# Altium footprint library TGIS_Microcontrollers.PcbLib: 18 footprints (part 1 of 2)
Each footprint in its own frame and in the unit in brackets; x right, y up, seen from the top. Pads: shape width x height; smd on the part's side, far side on the other; paste and mask are expansions set on the pad; w line width, h text height; cw(c..) or ccw(c..) is an arc to the next point about the centre after c.
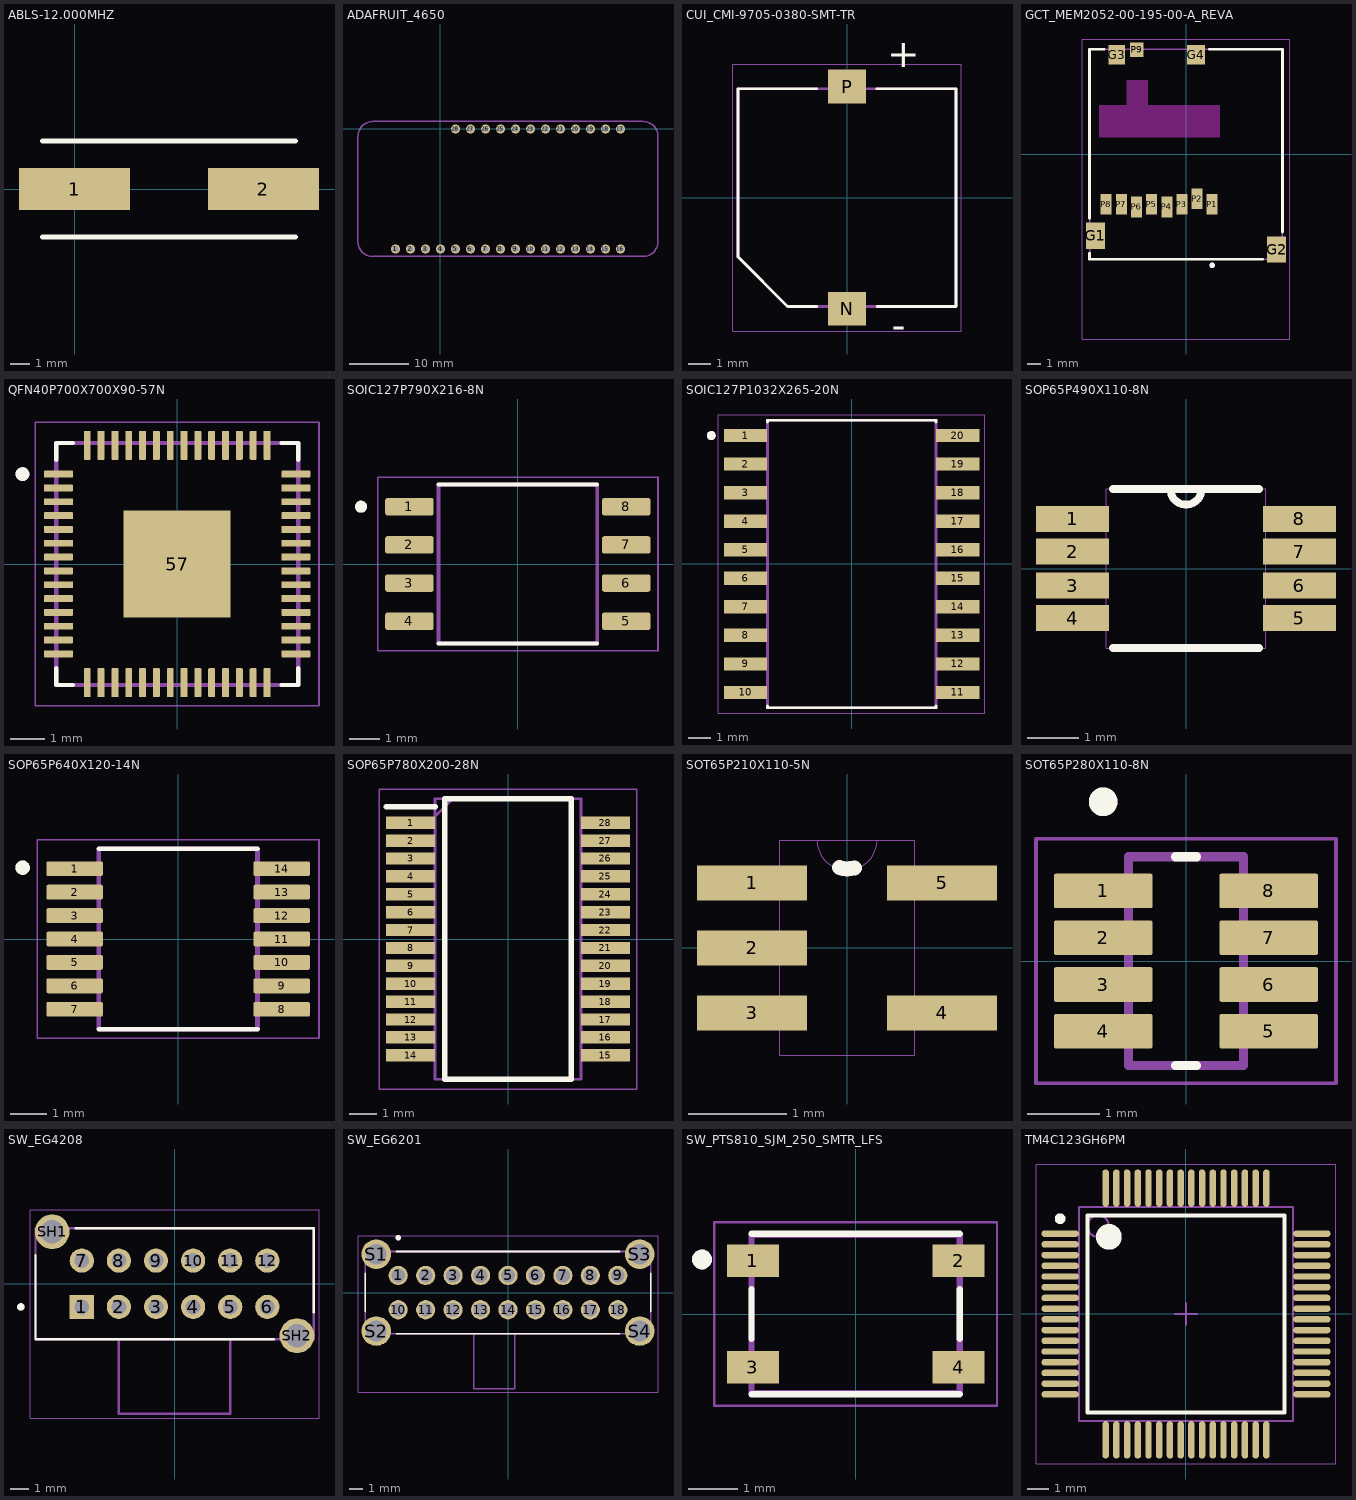
[diagram p0: the footprints below, top view; thin cyan lines are the x and y axes]

## ABLS-12.000MHZ [mil]
pads (2):
  rect 220x83 smd paste-22.44 mask+1.97: 1(0,0) 2(374,0)
Top Overlay:
  lines w10: -63,-95 187,-95 437,-95 ; -63,95 187,95 437,95
3D body "ABLS-12.000MHZ-B2-T--3DModel-STEP-400430.STEP": height 160.5, standoff -3.5, extent -60,-92.5 440,92.5

## ADAFRUIT_4650 [mil]
pads (28):
  round 60 hole 40: 1(-300,-800) 2(-200,-800) 3(-100,-800) 4(0,-800) 5(100,-800) 6(200,-800) 7(300,-800) 8(400,-800) 9(500,-800) 10(600,-800) 11(700,-800) 12(800,-800) 13(900,-800) 14(1000,-800) 15(1100,-800) 16(1200,-800) 17(1200,0) 18(1100,0) 19(1000,0) 20(900,0) 21(800,0) 22(700,0) 23(600,0) 24(500,0) 25(400,0) 26(300,0) 27(200,0) 28(100,0)
Mechanical 1:
  lines w10: -550,-750 ccw(c-450,-750) -450,-850 1350,-850 ccw(c1350,-750) 1450,-750 1450,-650 1450,-150 1450,-50 ccw(c1350,-50) 1350,50 -450,50 ccw(c-450,-50) -550,-50 -550,-750
3D body: height 150, standoff 0, extent -550,-1050 -550,-790
3D body: height 150, standoff 0, extent -550,-790 -530,-770
3D body: height 150, standoff 0, extent -530,-770 -530,-630
3D body: height 150, standoff 0, extent -550,-630 -530,-610
3D body: height 150, standoff 0, extent -550,-610 -550,-350
3D body: height 150, standoff 0, extent -450,-250 1350,-250
3D body: height 150, standoff 0, extent 1450,-1050 1450,-350
3D body: height 150, standoff 0, extent -450,-1150 1350,-1150
3D body "4650 OLED FeatherWing.step": height 442.72, standoff 183.46, extent -550,-850 1450,50
3D body "12-Pin Header - Female - 2.54mm.step": height 197.35, standoff -117.61, extent 40.16,-48.43 1259.84,50
3D body "BPSC-16.stp": height 415, standoff -39.33, extent -350,-850 1250,-750
3D body "16-Pin Header - Female - 2.54mm.step": height 197.35, standoff -117.61, extent -359.84,-850 1259.84,-751.57
3D body "BPSC-12.stp": height 415, standoff -39.33, extent 50,-45 1250,55

## CUI_CMI-9705-0380-SMT-TR [mm]
height 5.2
pads (2):
  rect 1.7x1.5 smd: N(0,-4.95) P(0,4.95)
Top Overlay:
  lines w0.127: -1.35,-4.85 -2.65,-4.85 -4.85,-2.65 -4.85,4.85 -1.35,4.85 ; 1.34,4.85 4.85,4.85 4.85,-4.85 1.35,-4.85
  text "-" at 2,-6.3 h1.27
  text "+" at 1.8,5.8 h1.27
Mechanical 13:
  lines w0.127: -4.85,-2.65 -2.65,-4.85 4.85,-4.85 4.85,4.85 -4.85,4.85 -4.85,-2.65
  text "-" at 2,-6.3 h1.27
  text "+" at 1.8,5.8 h1.27
Mechanical 15:
  lines w0.05: -5.1,-5.95 -5.1,5.95 5.1,5.95 5.1,-5.95 -5.1,-5.95
3D body "CUI_DEVICES_CMI-9705-0380-SMT-TR.step": height 5.21, standoff 0.01, extent -4.85,-5.05 4.85,5.05

## GCT_MEM2052-00-195-00-A_REVA [mm]
height 1.95
pads (13):
  rect 1.4x1.9 smd: G1(-6.575,-5.925) G2(6.575,-6.925)
  rect 1.2x1.4 smd: G3(-5.035,7.225)
  rect 1.3x1.4 smd: G4(0.715,7.225)
  rect 0.8x1.5 smd: P1(1.905,-3.635) P2(0.805,-3.235) P3(-0.295,-3.635) P4(-1.395,-3.835) P5(-2.495,-3.635) P6(-3.595,-3.835) P7(-4.695,-3.635) P8(-5.795,-3.635)
  rect 1x1.04 smd: P9(-3.585,7.595)
Top Overlay:
  circle w0.2: c1.905,-8.065 r0.1
  lines w0.2: -7,-7.195 -7,-7.625 5.555,-7.625 ; -7,-4.655 -7,7.625 -5.955,7.625 ; 1.685,7.625 7,7.625 7,-5.655
Keep-Out Layer:
  region: -2.79,3.535 2.45,3.535 2.45,1.235 -6.31,1.235 -6.31,3.535 -4.29,3.535 -4.29,5.365 -2.79,5.365
Mechanical 13:
  circle w0.2: c1.905,-8.065 r0.1
  lines w0.1: -7,-7.625 -7,7.625 7,7.625 7,-7.625 -7,-7.625
Mechanical 15:
  lines w0.05: -7.525,-13.425 7.525,-13.425 7.525,8.365 -7.525,8.365 -7.525,-13.425
3D body "mem2052-00-195-00-a.stp": height 1.96, standoff 0.01, extent -7.202,-7.83 6.948,7.62

## QFN40P700X700X90-57N [mm]
height 0.9
pads (57):
  rrect25% 0.84x0.2 smd mask+0.05: 1(-3.435,2.6) 2(-3.435,2.2) 3(-3.435,1.8) 4(-3.435,1.4) 5(-3.435,1) 6(-3.435,0.6) 7(-3.435,0.2) 8(-3.435,-0.2) 9(-3.435,-0.6) 10(-3.435,-1) 11(-3.435,-1.4) 12(-3.435,-1.8) 13(-3.435,-2.2) 14(-3.435,-2.6) 29(3.435,-2.6) 30(3.435,-2.2) 31(3.435,-1.8) 32(3.435,-1.4) 33(3.435,-1) 34(3.435,-0.6) 35(3.435,-0.2) 36(3.435,0.2) 37(3.435,0.6) 38(3.435,1) 39(3.435,1.4) 40(3.435,1.8) 41(3.435,2.2) 42(3.435,2.6)
  rrect25% 0.2x0.84 smd mask+0.05: 15(-2.6,-3.435) 16(-2.2,-3.435) 17(-1.8,-3.435) 18(-1.4,-3.435) 19(-1,-3.435) 20(-0.6,-3.435) 21(-0.2,-3.435) 22(0.2,-3.435) 23(0.6,-3.435) 24(1,-3.435) 25(1.4,-3.435) 26(1.8,-3.435) 27(2.2,-3.435) 28(2.6,-3.435) 43(2.6,3.435) 44(2.2,3.435) 45(1.8,3.435) 46(1.4,3.435) 47(1,3.435) 48(0.6,3.435) 49(0.2,3.435) 50(-0.2,3.435) 51(-0.6,3.435) 52(-1,3.435) 53(-1.4,3.435) 54(-1.8,3.435) 55(-2.2,3.435) 56(-2.6,3.435)
  rect 3.1x3.1 smd paste-0.57 mask+0.05: 57(0,0)
Top Overlay:
  circle w0.2: c-4.475,2.6 r0.1
  lines w0.127: -3.5,-3.02 -3.5,-3.5 -3.02,-3.5 ; -3.5,3.02 -3.5,3.5 -3.02,3.5 ; 3.02,-3.5 3.5,-3.5 3.5,-3.02 ; 3.02,3.5 3.5,3.5 3.5,3.02
Mechanical 13:
  circle w0.2: c-4.475,2.6 r0.1
  lines w0.127: -3.5,-3.5 -3.5,3.5 3.5,3.5 3.5,-3.5 -3.5,-3.5
Mechanical 15:
  lines w0.05: -4.105,-4.105 -4.105,4.105 4.105,4.105 4.105,-4.105 -4.105,-4.105
3D body "RP2040--3DModel-STEP-269445.STEP": height -0.38, standoff -1.28, extent -3.5,-3.5 3.5,3.5

## SOIC127P790X216-8N [mm]
pads (8):
  rrect25% 1.61x0.58 smd: 1(-3.605,1.905) 2(-3.605,0.635) 3(-3.605,-0.635) 4(-3.605,-1.905) 5(3.605,-1.905) 6(3.605,-0.635) 7(3.605,0.635) 8(3.605,1.905)
Top Overlay:
  circle w0.2: c-5.215,1.905 r0.1
  lines w0.127: -2.64,-2.64 2.64,-2.64 ; -2.64,2.64 2.64,2.64
Mechanical 13:
  circle w0.2: c-5.215,1.905 r0.1
  lines w0.127: -2.64,-2.64 -2.64,2.64 2.64,2.64 2.64,-2.64 -2.64,-2.64
Mechanical 15:
  lines w0.05: -4.66,-2.89 -4.66,2.89 4.66,2.89 4.66,-2.89 -4.66,-2.89
3D body "W25Q128JVSIQ.STEP": height 2.11, standoff -0.05, extent -3.95,-2.64 3.95,2.64

## SOIC127P1032X265-20N [mm]
pads (20):
  rect 1.92x0.59 smd: 1(-4.72,5.715) 2(-4.72,4.445) 3(-4.72,3.175) 4(-4.72,1.905) 5(-4.72,0.635) 6(-4.72,-0.635) 7(-4.72,-1.905) 8(-4.72,-3.175) 9(-4.72,-4.445) 10(-4.72,-5.715) 11(4.72,-5.715) 12(4.72,-4.445) 13(4.72,-3.175) 14(4.72,-1.905) 15(4.72,-0.635) 16(4.72,0.635) 17(4.72,1.905) 18(4.72,3.175) 19(4.72,4.445) 20(4.72,5.715)
Top Overlay:
  circle w0.2: c-6.25,5.715 r0.1
  lines w0.127: -3.75,-6.325 -3.75,-6.4 3.75,-6.4 3.75,-6.325 ; -3.75,6.325 -3.75,6.4 3.75,6.4 3.75,6.325
Mechanical 13:
  circle w0.2: c-6.25,5.715 r0.1
  lines w0.127: -3.75,-6.4 -3.75,6.4 3.75,6.4 3.75,-6.4 -3.75,-6.4
Mechanical 15:
  lines w0.05: -5.93,-6.65 -5.93,6.65 5.93,6.65 5.93,-6.65 -5.93,-6.65
3D body "step_temp.STEP": height 2.65, standoff 0, extent -5.162,-6.4 5.162,6.4

## SOP65P490X110-8N [mil]
pads (8):
  rect 56x20 smd: 1(-87,38) 2(-87,13) 3(-87,-13) 4(-87,-38) 5(87,-38) 6(87,-13) 7(87,13) 8(87,38)
Top Overlay:
  lines w6: -56,-61 56,-61 ; -56,61 -12,61 ; 56,61 12,61 ; -12,61 ccw(c0,61) 12,61 ; -12,61 12,61
Mechanical 13:
  lines w0: -12,61 ccw(c0,61) 12,61 ; -12,61 -61,61 -61,-61 61,-61 61,61 12,61 ; -12,61 12,61 ; -100,-47 -61,-47 -61,-30 -100,-30 -100,-47 ; -100,-22 -61,-22 -61,-4 -100,-4 -100,-22 ; -100,4 -61,4 -61,22 -100,22 -100,4 ; -100,30 -61,30 -61,47 -100,47 -100,30 ; 61,-47 100,-47 100,-30 61,-30 61,-47 ; 61,-22 100,-22 100,-4 61,-4 61,-22 ; 61,4 100,4 100,22 61,22 61,4 ; 61,30 100,30 100,47 61,47 61,30
3D body "PCA9515ADP_118.step": height 37.9, standoff -5.4, extent -96.46,-59.06 96.46,59.06

## SOP65P640X120-14N [mm]
pads (14):
  rrect25% 1.57x0.41 smd: 1(-2.87,1.95) 2(-2.87,1.3) 3(-2.87,0.65) 4(-2.87,0) 5(-2.87,-0.65) 6(-2.87,-1.3) 7(-2.87,-1.95) 8(2.87,-1.95) 9(2.87,-1.3) 10(2.87,-0.65) 11(2.87,0) 12(2.87,0.65) 13(2.87,1.3) 14(2.87,1.95)
Top Overlay:
  circle w0.2: c-4.313,1.979 r0.1
  lines w0.127: -2.2,-2.5 2.2,-2.5 ; -2.2,2.5 2.2,2.5
Mechanical 13:
  circle w0.2: c-4.313,1.979 r0.1
  lines w0.127: -2.2,-2.5 -2.2,2.5 2.2,2.5 2.2,-2.5 -2.2,-2.5
Mechanical 15:
  lines w0.05: -3.905,-2.75 -3.905,2.75 3.905,2.75 3.905,-2.75 -3.905,-2.75
3D body "step_temp.STEP": height 1.2, standoff 0, extent -3.2,-2.5 3.2,2.5

## SOP65P780X200-28N [mm]
pads (28):
  rect 1.775x0.45 smd: 1(-3.538,4.225) 2(-3.538,3.575) 3(-3.538,2.925) 4(-3.538,2.275) 5(-3.538,1.625) 6(-3.538,0.975) 7(-3.538,0.325) 8(-3.538,-0.325) 9(-3.538,-0.975) 10(-3.538,-1.625) 11(-3.538,-2.275) 12(-3.538,-2.925) 13(-3.538,-3.575) 14(-3.538,-4.225) 15(3.538,-4.225) 16(3.538,-3.575) 17(3.538,-2.925) 18(3.538,-2.275) 19(3.538,-1.625) 20(3.538,-0.975) 21(3.538,-0.325) 22(3.538,0.325) 23(3.538,0.975) 24(3.538,1.625) 25(3.538,2.275) 26(3.538,2.925) 27(3.538,3.575) 28(3.538,4.225)
Top Overlay:
  lines w0.2: -4.425,4.8 -2.65,4.8 ; -2.3,-5.1 -2.3,5.1 2.3,5.1 2.3,-5.1 -2.3,-5.1
Mechanical 15:
  lines w0.1: -2.65,4.45 -2,5.1 ; -2.65,-5.1 -2.65,5.1 2.65,5.1 2.65,-5.1 -2.65,-5.1
Mechanical 20:
  lines w0.05: -4.675,-5.45 -4.675,5.45 4.675,5.45 4.675,-5.45 -4.675,-5.45
3D body "CY7C65213-28PVXIT.stp": height 2, standoff 0, extent -3.9,-5.1 3.9,5.1

## SOT65P210X110-5N [mil]
pads (5):
  rect 44x14 smd: 1(-38,26) 2(-38,0) 3(-38,-26) 4(38,-26) 5(38,26)
Top Overlay:
  lines w6: -3.09,32.03 ccw(c0,42.13) 2.91,31.97
Mechanical 13:
  lines w0: -27,-31 -43,-31 -43,-20 -27,-20 ; -27,-31 -27,-43 27,-43 27,-31 ; -27,-31 -27,-20 ; -27,-20 -27,-6 ; -27,-6 -43,-6 -43,6 -27,6 ; -27,-6 -27,6 ; -27,6 -27,20 ; -27,20 -43,20 -43,31 -27,31 ; -27,20 -27,31 ; -27,31 -27,43 -12,43 ; -12,43 ccw(c0,43) 12,43 ; -12,43 12,43 ; 12,43 27,43 27,31 ; 27,-31 43,-31 43,-20 27,-20 ; 27,-31 27,-20 ; 27,-20 27,20 ; 27,20 43,20 43,31 27,31 ; 27,20 27,31
3D body "74LVC1G17SE-7.STEP": height 43.32, standoff -0.02, extent -41.36,-39.37 41.34,39.37

## SOT65P280X110-8N [mm]
pads (8):
  rrect10% 1.37x0.48 smd: 1(-1.15,0.975) 2(-1.15,0.325) 3(-1.15,-0.325) 4(-1.15,-0.975) 5(1.15,-0.975) 6(1.15,-0.325) 7(1.15,0.325) 8(1.15,0.975)
Top Overlay:
  circle w0.2: c-1.15,2.215 r0.1
  lines w0.127: -0.145,-1.45 0.145,-1.45 ; -0.145,1.45 0.145,1.45
Mechanical 13:
  circle w0.2: c-1.15,2.215 r0.1
  lines w0.127: -0.8,-1.45 0.8,-1.45 0.8,1.45 -0.8,1.45 -0.8,-1.45
Mechanical 15:
  lines w0.05: -2.085,-1.7 2.085,-1.7 2.085,1.7 -2.085,1.7 -2.085,-1.7
3D body "step_temp.STEP": height 1.1, standoff 0, extent -1.4,-1.45 1.4,1.45

## SW_EG4208 [mm]
height 5
pads (14):
  rect 1.308x1.308 / inner round 1.308 / far side rect 1.308x1.308 hole 0.8: 1(-5,-1.25)
  round 1.308 hole 0.8: 2(-3,-1.25) 3(-1,-1.25) 4(1,-1.25) 5(3,-1.25) 6(5,-1.25) 7(-5,1.25) 8(-3,1.25) 9(-1,1.25) 10(1,1.25) 11(3,1.25) 12(5,1.25)
  round 1.875 hole 1.25: SH1(-6.6,2.8) SH2(6.6,-2.8)
Top Overlay:
  circle w0.2: c-8.287,-1.25 r0.1
  lines w0.127: -7.5,1.542 -7.5,-3 5.342,-3 ; -5.342,3 7.5,3 7.5,-1.542
Mechanical 13:
  circle w0.2: c-8.287,-1.25 r0.1
  lines w0.127: -3,-3 -3,-7 3,-7 3,-3 ; -3,-3 -7.5,-3 -7.5,3 7.5,3 7.5,-3 3,-3 ; -3,-3 3,-3
Mechanical 15:
  lines w0.05: -7.788,-7.25 7.788,-7.25 7.788,3.988 -7.788,3.988 -7.788,-7.25

## SW_EG6201 [mm]
pads (22):
  round 1.4 hole 1: 1(-8,1.25) 2(-6,1.25) 3(-4,1.25) 4(-2,1.25) 5(0,1.25) 6(2,1.25) 7(4,1.25) 8(6,1.25) 9(8,1.25) 10(-8,-1.25) 11(-6,-1.25) 12(-4,-1.25) 13(-2,-1.25) 14(0,-1.25) 15(2,-1.25) 16(4,-1.25) 17(6,-1.25) 18(8,-1.25)
  round 2.15 hole 1.5: S1(-9.6,2.8) S2(-9.6,-2.8) S3(9.6,2.8) S4(9.6,-2.8)
Top Overlay:
  circle w0.2: c-8,4 r0.1
  lines w0.127: -10.4,-1.4 -10.4,1.4 ; -8.125,-3 8.125,-3 ; -8.125,3 8.125,3 ; 10.4,-1.4 10.4,1.4
Mechanical 13:
  circle w0.2: c-8,4 r0.1
  lines w0.127: -2.5,-3 0.5,-3 ; -2.5,-3 -10.4,-3 -10.4,3 10.4,3 10.4,-3 0.5,-3 ; -2.5,-3 -2.5,-7 0.5,-7 0.5,-3
Mechanical 15:
  lines w0.05: -10.93,-7.25 10.93,-7.25 10.93,4.13 -10.93,4.13 -10.93,-7.25
3D body "EG6201--3DModel-STEP-56544.STEP": height 5.01, standoff -2.99, extent -10.4,-7 10.4,3

## SW_PTS810_SJM_250_SMTR_LFS [mm]
pads (4):
  rect 1.05x0.65 smd: 1(-2.075,1.075) 2(2.075,1.075) 3(-2.075,-1.075) 4(2.075,-1.075)
Top Overlay:
  circle w0.2: c-3.1,1.1 r0.1
  lines w0.127: -2.1,-1.62 2.1,-1.62 ; -2.1,-0.5 -2.1,0.5 ; -2.1,1.62 2.1,1.62 ; 2.1,-0.5 2.1,0.5
Mechanical 13:
  circle w0.2: c-3.1,1.1 r0.1
  lines w0.127: -2.1,-1.6 -2.1,1.6 2.1,1.6 2.1,-1.6 -2.1,-1.6
Mechanical 15:
  lines w0.05: -2.85,-1.85 -2.85,1.85 2.85,1.85 2.85,-1.85 -2.85,-1.85
3D body "PTS810 SJM 250 SMTR LFS--3DModel-STEP-56544.STEP": height 2.71, standoff 0.01, extent -2.3,-1.6 2.3,1.6

## TM4C123GH6PM [mm] "TSQFP, 64-Leads, Body 10.00x10.00mm, Pitch 0.50mm, IPC Medium Density"
height 1.6
pads (64):
  oval 1.75x0.3 smd: 1(-5.875,3.75) 2(-5.875,3.25) 3(-5.875,2.75) 4(-5.875,2.25) 5(-5.875,1.75) 6(-5.875,1.25) 7(-5.875,0.75) 8(-5.875,0.25) 9(-5.875,-0.25) 10(-5.875,-0.75) 11(-5.875,-1.25) 12(-5.875,-1.75) 13(-5.875,-2.25) 14(-5.875,-2.75) 15(-5.875,-3.25) 16(-5.875,-3.75) 33(5.875,-3.75) 34(5.875,-3.25) 35(5.875,-2.75) 36(5.875,-2.25) 37(5.875,-1.75) 38(5.875,-1.25) 39(5.875,-0.75) 40(5.875,-0.25) 41(5.875,0.25) 42(5.875,0.75) 43(5.875,1.25) 44(5.875,1.75) 45(5.875,2.25) 46(5.875,2.75) 47(5.875,3.25) 48(5.875,3.75)
  oval 0.3x1.75 smd: 17(-3.75,-5.875) 18(-3.25,-5.875) 19(-2.75,-5.875) 20(-2.25,-5.875) 21(-1.75,-5.875) 22(-1.25,-5.875) 23(-0.75,-5.875) 24(-0.25,-5.875) 25(0.25,-5.875) 26(0.75,-5.875) 27(1.25,-5.875) 28(1.75,-5.875) 29(2.25,-5.875) 30(2.75,-5.875) 31(3.25,-5.875) 32(3.75,-5.875) 49(3.75,5.875) 50(3.25,5.875) 51(2.75,5.875) 52(2.25,5.875) 53(1.75,5.875) 54(1.25,5.875) 55(0.75,5.875) 56(0.25,5.875) 57(-0.25,5.875) 58(-0.75,5.875) 59(-1.25,5.875) 60(-1.75,5.875) 61(-2.25,5.875) 62(-2.75,5.875) 63(-3.25,5.875) 64(-3.75,5.875)
Top Overlay:
  circle w0.25: c-5.875,4.45 r0.125
  circle w0.6: c-3.6,3.6 r0.3
  lines w0.2: -4.6,-4.6 -4.6,4.6 4.6,4.6 4.6,-4.6 -4.6,-4.6
Top Assembly:
  circle w0.1: c-4.1,4.1 r0.5
  lines w0.1: -5,-5 -5,5 5,5 5,-5 -5,-5
Mechanical 15:
  lines w0.05: -7,-7 -7,7 7,7 7,-7 -7,-7
  lines w0.1: -0.5,0 0.5,0 ; 0,-0.5 0,0.5
3D body "TM4C123GH6PMT7.STEP": height 1.61, standoff 0.01, extent -6,-6 6,6